# Altium footprint library M208760642.PcbLib: 1 footprints
Each footprint in its own frame and in the unit in brackets; x right, y up, seen from the top. Pads: shape width x height; smd on the part's side, far side on the other; paste and mask are expansions set on the pad; w line width, h text height; cw(c..) or ccw(c..) is an arc to the next point about the centre after c.
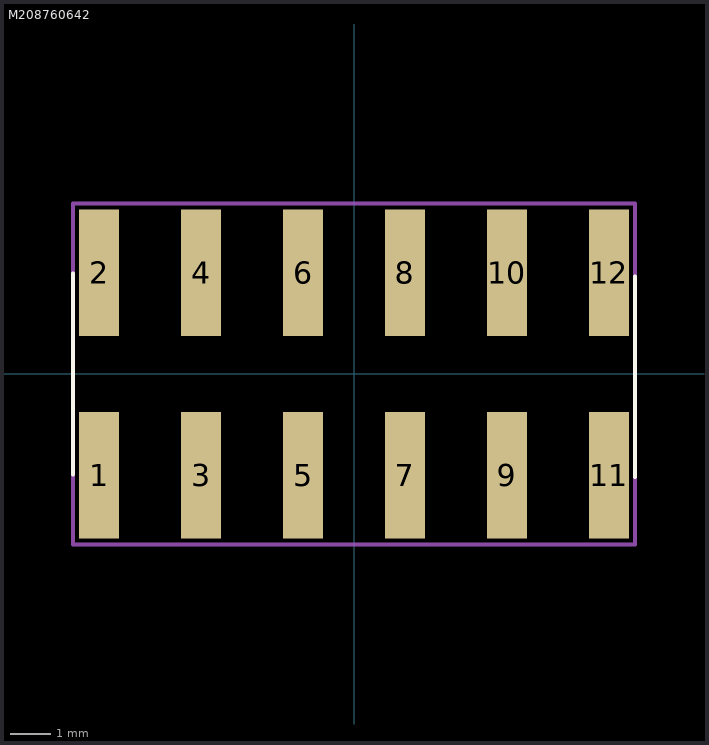
[diagram p0: the footprint, top view; thin cyan lines are the x and y axes]

## M208760642 [mm]
pads (12):
  rect 1x3.15 smd: 1(-6.35,-2.525) 2(-6.35,2.525) 3(-3.81,-2.525) 4(-3.81,2.525) 5(-1.27,-2.525) 6(-1.27,2.525) 7(1.27,-2.525) 8(1.27,2.525) 9(3.81,-2.525) 10(3.81,2.525) 11(6.35,-2.525) 12(6.35,2.525)
Top Overlay:
  lines w0.1: -7,-2.499 -7,2.501 ; 7.001,-2.568 7.001,2.432
Mechanical 15:
  lines w0.1: -7,-4.251 -7,4.248 7.001,4.248 7.001,-4.251 -7,-4.251
3D body "M20-8760642.stp": height 8.1, standoff 0, extent -7.62,-4 7.62,4